# EAGLE library part LEA-4T (library ublox)
LEA-4T u-blox GPS receiver module
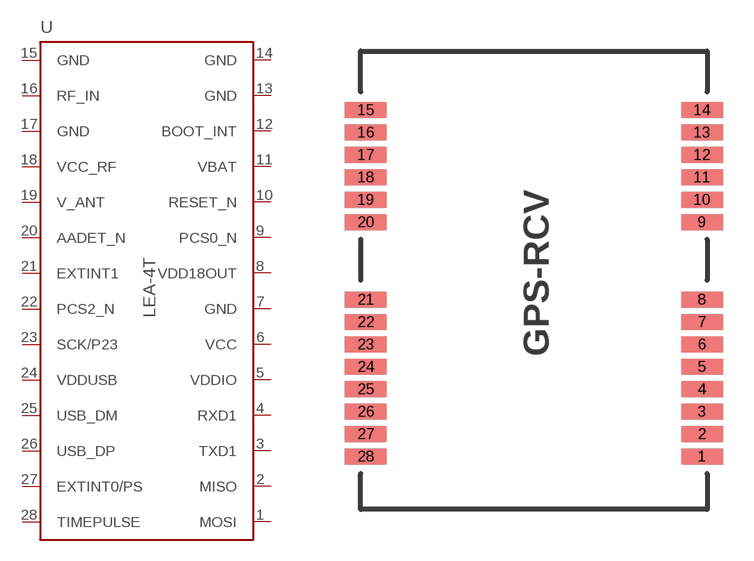
[diagram p0: symbol with the pads of LEA-4T; footprint LEA-4T]

Designator prefix -

## LEA-4T  [LEA-4T]
1  MOSI
2  MISO
3  TXD1  out
4  RXD1
5  VDDIO  in
6  VCC  in
7  GND
8  VDD18OUT  out
9  PCS0_N
10  RESET_N
11  VBAT  in
12  BOOT_INT  nc
13  GND
14  GND
15  GND
16  RF_IN  in
17  GND
18  VCC_RF  out
19  V_ANT  in
20  AADET_N
21  EXTINT1
22  PCS2_N
23  SCK/P23
24  VDDUSB  in
25  USB_DM
26  USB_DP
27  EXTINT0/PS
28  TIMEPULSE  out

## Footprint LEA-4T (pad centres in mm)
smd 2.032 x 0.762: 1 8.246,-8.65; 2 8.246,-7.55; 3 8.246,-6.45; 4 8.246,-5.35; 5 8.246,-4.25; 6 8.246,-3.15; 7 8.246,-2.05; 8 8.246,-0.95; 9 8.246,2.85; 10 8.246,3.95; 11 8.246,5.05; 12 8.246,6.15; 13 8.246,7.25; 14 8.246,8.35; 15 -8.246,8.35; 16 -8.246,7.25; 17 -8.246,6.15; 18 -8.246,5.05; 19 -8.246,3.95; 20 -8.246,2.85; 21 -8.246,-0.95; 22 -8.246,-2.05; 23 -8.246,-3.15; 24 -8.246,-4.25; 25 -8.246,-5.35; 26 -8.246,-6.45; 27 -8.246,-7.55; 28 -8.246,-8.65